# EAGLE library part 25VF512A-33SAE (library Integrated Circuits)
Flash Memory SPI 3.3V
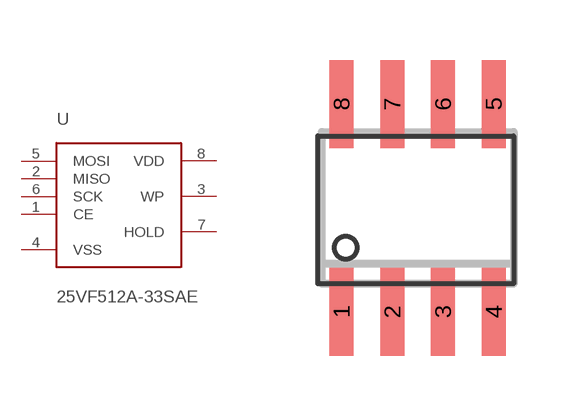
[diagram p0: symbol with the pads of SOIC-8; footprint SOIC-8]

Designator prefix -

## 25VF512A-33SAE  [SOIC-8]
1  CE
2  MISO
3  WP
4  VSS
5  MOSI
6  SCK
7  HOLD
8  VDD

## Footprint SOIC-8 (pad centres in mm)
smd 0.6 x 2.2: 1 -1.905,-2.6; 2 -0.635,-2.6; 3 0.635,-2.6; 4 1.905,-2.6; 5 1.905,2.6; 6 0.635,2.6; 7 -0.635,2.6; 8 -1.905,2.6